# Altium footprint library ESP32-S3-WROOM-1-N16R2.PcbLib: 1 footprints
Each footprint in its own frame and in the unit in brackets; x right, y up, seen from the top. Pads: shape width x height; smd on the part's side, far side on the other; paste and mask are expansions set on the pad; w line width, h text height; cw(c..) or ccw(c..) is an arc to the next point about the centre after c.
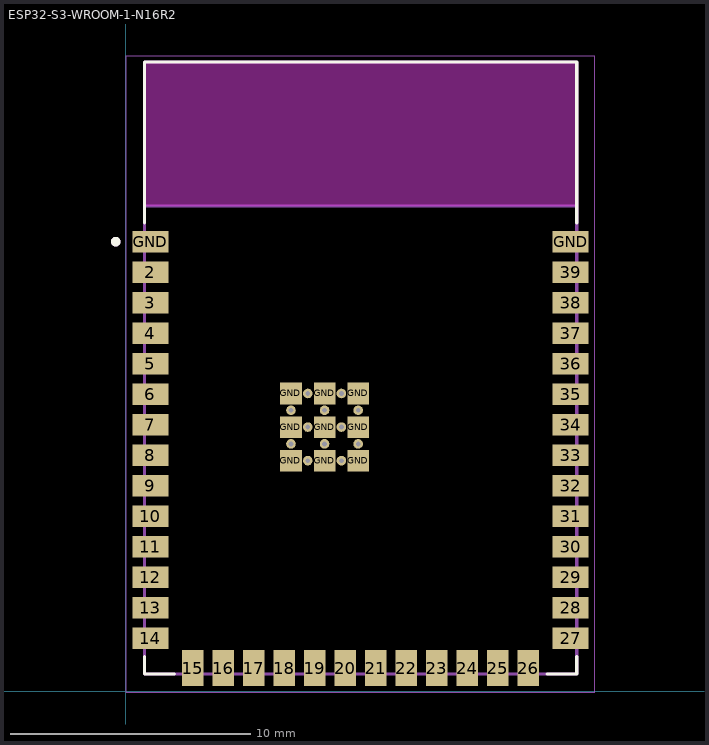
[diagram p0: the footprint, top view; thin cyan lines are the x and y axes]

## ESP32-S3-WROOM-1-N16R2 [mm]
height 3.25
pads (61):
  rect 1.5x0.9 smd: 2(1.029,17.452) 3(1.029,16.182) 4(1.029,14.912) 5(1.029,13.642) 6(1.029,12.372) 7(1.029,11.102) 8(1.029,9.832) 9(1.029,8.562) 10(1.029,7.292) 11(1.029,6.022) 12(1.029,4.752) 13(1.029,3.482) 14(1.029,2.212) 27(18.529,2.212) 28(18.529,3.482) 29(18.529,4.752) 30(18.529,6.022) 31(18.529,7.292) 32(18.529,8.562) 33(18.529,9.832) 34(18.529,11.102) 35(18.529,12.372) 36(18.529,13.642) 37(18.529,14.912) 38(18.529,16.182) 39(18.529,17.452) GND(1.029,18.722) GND(18.529,18.722)
  rect 0.9x1.5 smd: 15(2.794,0.962) 16(4.064,0.962) 17(5.334,0.962) 18(6.604,0.962) 19(7.874,0.962) 20(9.144,0.962) 21(10.414,0.962) 22(11.684,0.962) 23(12.954,0.962) 24(14.224,0.962) 25(15.494,0.962) 26(16.764,0.962)
  round 0.4 hole 0.2 mask+0: 41_10(8.279,11.702) 41_11(6.879,11.702) 41_12(9.679,11.702) 41_13(6.879,10.302) 41_14(8.279,10.302) 41_15(9.679,10.302) 41_16(7.579,12.402) 41_17(8.979,12.402) 41_18(7.579,11.002) 41_19(8.979,11.002) 41_20(7.579,9.602) 41_21(8.979,9.602)
  rect 0.9x0.9 smd: GND(6.879,9.602) GND(6.879,11.002) GND(6.879,12.402) GND(8.279,9.602) GND(8.279,11.002) GND(8.279,12.402) GND(9.679,9.602) GND(9.679,11.002) GND(9.679,12.402)
Top Overlay:
  circle w0.2: c-0.421,18.722 r0.1
  lines w0.127: 0.779,1.442 0.779,0.712 2.024,0.712 ; 0.779,19.492 0.779,26.212 18.779,26.212 18.779,19.492 ; 17.534,0.712 18.779,0.712 18.779,1.442
Keep-Out Layer:
  region: 18.779,20.212 0.779,20.212 0.779,26.212 18.779,26.212
  region: 18.779,20.212 0.779,20.212 0.779,26.212 18.779,26.212
Mechanical 13:
  circle w0.2: c-0.421,18.722 r0.1
  lines w0.127: 0.779,20.212 0.779,0.712 18.779,0.712 18.779,20.212 ; 0.779,20.212 0.779,26.212 18.779,26.212 18.779,20.212 ; 0.779,20.212 18.779,20.212
  text "ANTENNA" at 5.279,22.962 h1.27
Mechanical 15:
  lines w0.05: 0.029,-0.038 0.029,26.462 19.529,26.462 19.529,-0.038 0.029,-0.038
3D body "step_temp.STEP": height 3.25, standoff 0, extent 0.779,0.712 18.779,26.212